# Altium footprint library stm32 lib.PcbLib: 1 footprints
Each footprint in its own frame and in the unit in brackets; x right, y up, seen from the top. Pads: shape width x height; smd on the part's side, far side on the other; paste and mask are expansions set on the pad; w line width, h text height; cw(c..) or ccw(c..) is an arc to the next point about the centre after c.
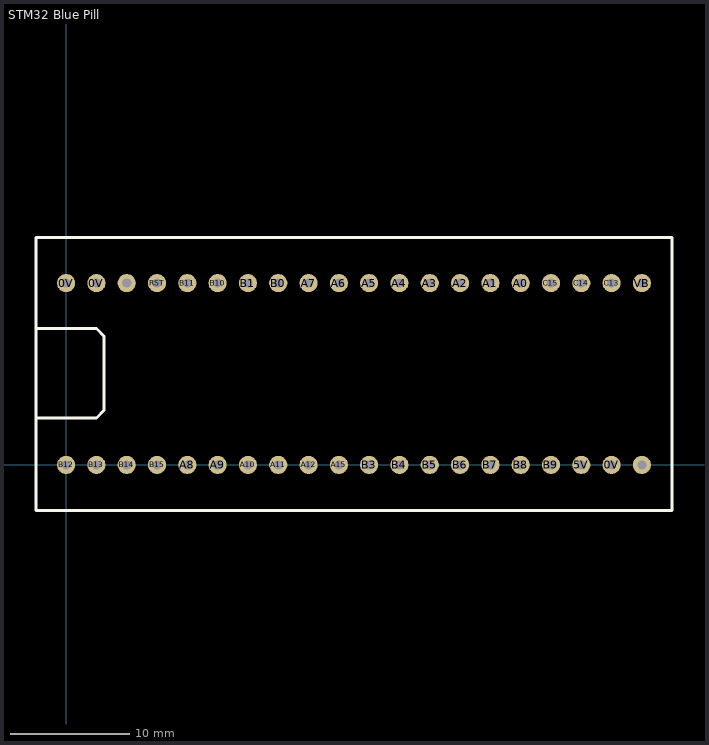
[diagram p0: the footprint, top view; thin cyan lines are the x and y axes]

## STM32 Blue Pill [mil] "Blue Pill"
pads (40):
  round 60 hole 30: 0V(0,600) 0V(100,600) 0V(1800,0) 3V3@1(200,600) 3V3@2(1900,0) 5V(1700,0) A0(1500,600) A1(1400,600) A2(1300,600) A3(1200,600) A4(1100,600) A5(1000,600) A6(900,600) A7(800,600) A8(400,0) A9(500,0) A10(600,0) A11(700,0) A12(800,0) A15(900,0) B0(700,600) B1(600,600) B3(1000,0) B4(1100,0) B5(1200,0) B6(1300,0) B7(1400,0) B8(1500,0) B9(1600,0) B10(500,600) B11(400,600) B12(0,0) B13(100,0) B14(200,0) B15(300,0) C13(1800,600) C14(1700,600) C15(1600,600) RST(300,600) VB(1900,600)
Top Overlay:
  lines w10: -100,450 100,450 125,425 125,180 100,155 -95,155 ; -100,-150 -100,750 2000,750 2000,-150 -100,-150